# EAGLE library part GPS_FGPMMOPA6H (library Simplex-ICs)
GPS Module - MTK MT3339 Chipset, -165dBm sensitivity, 22 channels, 10Hz, auto-select external antenna options
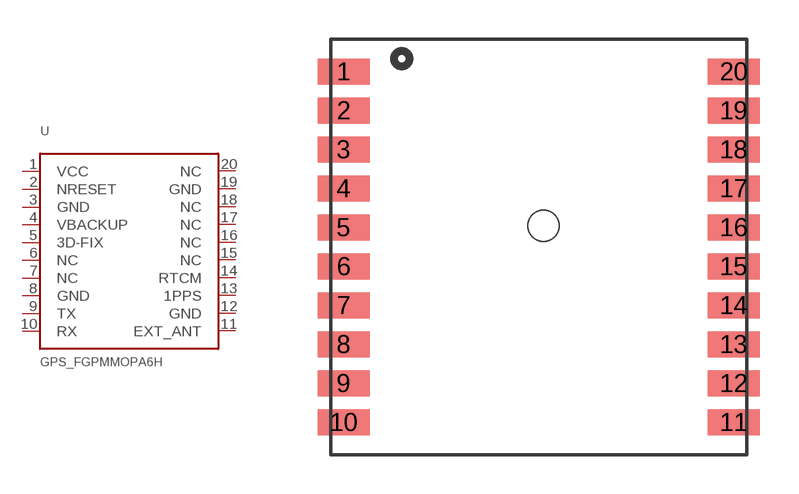
[diagram p3: symbol with the pads of FGPMMOPA6H; footprint FGPMMOPA6H]

Designator prefix U

## GPS_FGPMMOPA6H  [FGPMMOPA6H]
1  VCC
2  NRESET
3  GND
4  VBACKUP
5  3D-FIX
6  NC
7  NC
8  GND
9  TX
10  RX
11  EXT_ANT
12  GND
13  1PPS
14  RTCM
15  NC
16  NC
17  NC
18  NC
19  GND
20  NC

## Footprint FGPMMOPA6H (pad centres in mm)
FGPMM0PA6H footprint
smd 2 x 1: 1 0.5,14.75; 2 0.5,13.25; 3 0.5,11.75; 4 0.5,10.25; 5 0.5,8.75; 6 0.5,7.25; 7 0.5,5.75; 8 0.5,4.25; 9 0.5,2.75; 10 0.5,1.25; 11 15.5,1.25; 12 15.5,2.75; 13 15.5,4.25; 14 15.5,5.75; 15 15.5,7.25; 16 15.5,8.75; 17 15.5,10.25; 18 15.5,11.75; 19 15.5,13.25; 20 15.5,14.75
hole 1.2 at 8.2,8.8